# Altium schematic symbol library CustomLibrary (André Seidel Oliveira's conflicted copy 2013-01-27).SchLib: 23 symbols
Pins are listed as number, name and electrical type; pins without a type are passive.

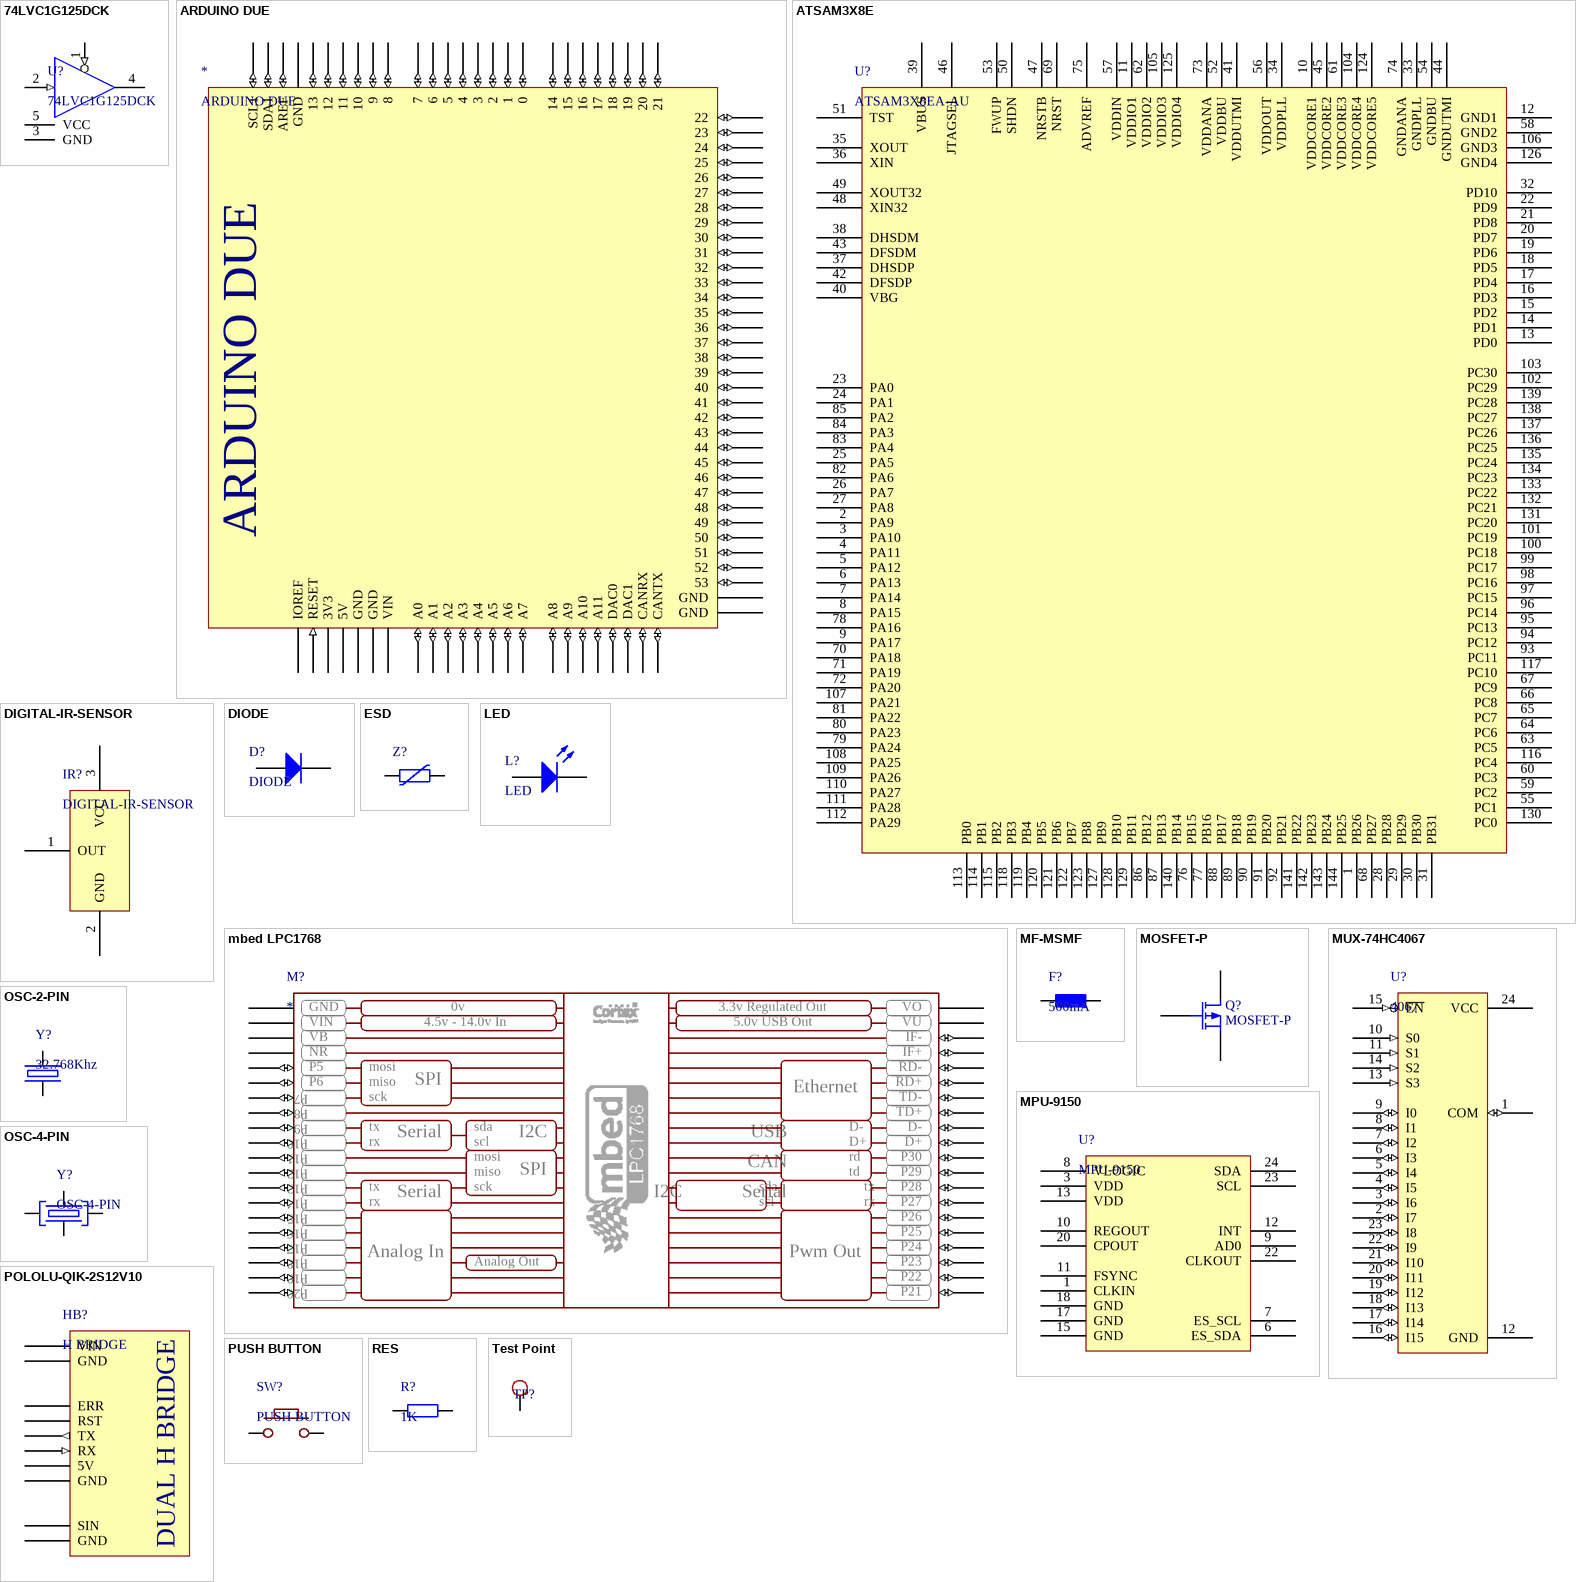
[diagram p0: symbols 74LVC1G125DCK to Test Point]

## 74LVC1G125DCK
designator U?
footprint SC70-5
pins: 1 (in), 2 (in), 3 GND (power), 4, 5 VCC (power)

## ARDUINO DUE
designator *
footprint ARDUINO-DUE
pins: 0 (io), 1 (io), 2 (io), 3 (io), 3V3 (power), 4 (io), 5 (io), 5V (power), 6 (io), 7 (io), 8 (io), 9 (io), 10 (io), 11 (io), 12 (io), 13 (io), 14 (io), 15 (io), 16 (io), 17 (io), 18 (io), 19 (io), 20 (io), 21 (io), 22 (io), 23 (io), 24 (io), 25 (io), 26 (io), 27 (io), 28 (io), 29 (io), 30 (io), 31 (io), 32 (io), 33 (io), 34 (io), 35 (io), 36 (io), 37 (io), 38 (io), 39 (io), 40 (io), 41 (io), 42 (io), 43 (io), 44 (io), 45 (io), 46 (io), 47 (io), 48 (io), 49 (io), 50 (io), 51 (io), 52 (io), 53 (io), A0 (io), A1 (io), A2 (io), A3 (io), A4 (io), A5 (io), A6 (io), A7 (io), A8 (io), A9 (io), A10 (io), A11 (io), AREF (io), CANRX (io), CANTX (io), DAC0 (io), DAC1 (io), GND1 GND (power), GND2 GND (power), GND3 GND (power), GND4 GND (power), GND5 GND (power), IOREF, RESET (in), SCL1 (io), SDA1 (io), VIN (power)

## ATSAM3X8E
designator U?, comment ATSAM3X8EA-AU
ATSAM3X8EA-AU ARM CORTEX M3 Microcontroller
footprint LQFP144_M (Thin QFP, 144-Leads, Body 20x20mm, Pitch 0.5mm, IPC Low Density)
pins: 1 PB26, 2 PA9, 3 PA10, 4 PA11, 5 PA12, 6 PA13, 7 PA14, 8 PA15, 9 PA17, 10 VDDCORE1 (power), 11 VDDIO1 (power), 12 GND1 (power), 13 PD0, 14 PD1, 15 PD2, 16 PD3, 17 PD4, 18 PD5, 19 PD6, 20 PD7, 21 PD8, 22 PD9, 23 PA0, 24 PA1, 25 PA5, 26 PA7, 27 PA8, 28 PB28, 29 PB29, 30 PB30, 31 PB31, 32 PD10, 33 GNDPLL (power), 34 VDDPLL (power), 35 XOUT, 36 XIN, 37 DHSDP, 38 DHSDM, 39 VBUS (power), 40 VBG, 41 VDDUTMI (power), 42 DFSDP, 43 DFSDM, 44 GNDUTMI (power), 45 VDDCORE2 (power), 46 JTAGSEL, 47 NRSTB, 48 XIN32, 49 XOUT32, 50 SHDN, 51 TST, 52 VDDBU (power), 53 FWUP, 54 GNDBU (power), 55 PC1, 56 VDDOUT (power), 57 VDDIN (power), 58 GND2 (power), 59 PC2, 60 PC3, 61 VDDCORE3 (power), 62 VDDIO2 (power), 63 PC5, 64 PC6, 65 PC7, 66 PC8, 67 PC9, 68 PB27, 69 NRST, 70 PA18, 71 PA19, 72 PA20, 73 VDDANA (power), 74 GNDANA (power), 75 ADVREF, 76 PB15, 77 PB16, 78 PA16, 79 PA24, 80 PA23, 81 PA22, 82 PA6, 83 PA4, 84 PA3, 85 PA2, 86 PB12, 87 PB13, 88 PB17, 89 PB18, 90 PB19, 91 PB20, 92 PB21, 93 PC11, 94 PC12, 95 PC13, 96 PC14, 97 PC15, 98 PC16, 99 PC17, 100 PC18, 101 PC19, 102 PC29, 103 PC30, 104 VDDCORE4 (power), 105 VDDIO3 (power), 106 GND3 (power), 107 PA21, 108 PA25, 109 PA26, 110 PA27, 111 PA28, 112 PA29, 113 PB0, 114 PB1, 115 PB2, 116 PC4, 117 PC10, 118 PB3, 119 PB4, 120 PB5, 121 PB6, 122 PB7, 123 PB8, 124 VDDCORE5 (power), 125 VDDIO4 (power), 126 GND4 (power), 127 PB9, 128 PB10, 129 PB11, 130 PC0, 131 PC20, 132 PC21, 133 PC22, 134 PC23, 135 PC24, 136 PC25, 137 PC26, 138 PC27, 139 PC28, 140 PB14, 141 PB22, 142 PB23, 143 PB24, 144 PB25

## DIGITAL-IR-SENSOR
designator IR?
Generic Infra Red Sensor
footprint KSM603 (Infrared sensor 3 pin KSM603)
pins: 1 OUT, 2 GND (power), 3 VCC (power)

## DIODE
designator D?
footprint DIODE1206 (Molded Diode, 2-Leads, Body 3,2x1,5mm, IPC Medium Density)
footprint DIODESMA
pins: 1 K, 2 A

## ESD
designator Z?
ESD Protection Diode
footprint ESD0603 (ESD Protection diode)
pins: 1, 2

## LED
designator L?
footprint LED0805
pins: 1 A, 2 K

## mbed LPC1768
designator M?
footprint DIP40-LARGE
pins: 1 GND (power), 2 VIN (power), 3 VB (power), 4 NR (power), 5 P5 (io), 6 P6 (io), 7 P7 (io), 8 P8 (io), 9 P9 (io), 10 P10 (io), 11 P11 (io), 12 P12 (io), 13 P13 (io), 14 P14 (io), 15 P15 (io), 16 P16 (io), 17 P17 (io), 18 P18 (io), 19 P19 (io), 20 P20 (io), 21 P21 (io), 22 P22 (io), 23 P23 (io), 24 P24 (io), 25 P25 (io), 26 P26 (io), 27 P27 (io), 28 P28 (io), 29 P29 (io), 30 P30 (io), 31 D+ (io), 32 D- (io), 33 TD+ (io), 34 TD- (io), 35 RD+ (io), 36 RD- (io), 37 IF+ (io), 38 IF- (io), 39 VU (power), 40 VO (power)
text: 0v; 3.3v Regulated Out; 4.5v - 14.0v In; 5.0v USB Out; mosi; miso; SPI; Ethernet; sck; tx; sda; Serial; I2C; USB; rx; scl; rd; CAN; td; Analog In; Pwm Out; Analog Out

## MF-MSMF
designator F?, comment 500mA
MF-MSMF Series - PTC Resettable Fuses
footprint MF-MSMF (MF-MSMF Series - PTC Resettable Fuses)
pins: 1, 2

## MOSFET-P
designator Q?
P-Channel MOSFET; Published: 8-Jun-2000; LatestRevisionDate: 17-Jul-2002; LatestRevisionNote: Re-released for DXP Platform.; PackageVersion: 1995/1996; PackageReference: E3; Publisher: Altium Limited; PackageDescription: TO, Flat Index; 3 In-Line, Axial Leads; Body Dia. 4.6mm; Lead Dia. 0.5 mm (max)
footprint SOT-23 (SOT23, 3-Leads, Body 3,0x2,6mm (max), Pitch 0,95mm, IPC Medium Density)
pins: 1 G, 2 S, 3 D

## MPU-9150
designator U?
InveSense MPU-9150 IMU 9 axles
footprint LGA-24 (QFN, 24-Leads, Body 4,0x4,0mm (max), Pitch 0,50mm, IPC Medium Density)
pins: 1 CLKIN, 3 VDD (power), 6 ES_SDA, 7 ES_SCL, 8 VLOGIC (power), 9 AD0, 10 REGOUT, 11 FSYNC, 12 INT, 13 VDD (power), 15 GND (power), 17 GND (power), 18 GND (power), 20 CPOUT, 22 CLKOUT, 23 SCL, 24 SDA

## MUX-74HC4067
designator U?, comment 4067
MUX-74HC4067
footprint SSOP-24 (SOP, 24-Leads, Body 8,5x5,6mm (max), Pitch 0,65mm, IPC Medium Density)
pins: 1 COM (io), 2 I7 (io), 3 I6 (io), 4 I5 (io), 5 I4 (io), 6 I3 (io), 7 I2 (io), 8 I1 (io), 9 I0 (io), 10 S0 (in), 11 S1 (in), 12 GND (power), 13 S3 (in), 14 S2 (in), 15 ~{EN} (in), 16 I15 (io), 17 I14 (io), 18 I13 (io), 19 I12 (io), 20 I11 (io), 21 I10 (io), 22 I9 (io), 23 I8 (io), 24 VCC (power)

## OSC-2-PIN
designator Y?, comment 32.768Khz
2 pin oscilator
footprint OSC-2-PIN (Package of a 2 pin SMD oscilator)
footprint OSC-2-PIN-TH (Trough Hole two pin crystal oscilator)
pins: 1, 2

## OSC-4-PIN
designator Y?
KX-7 12MHz Oscilator 20pF
footprint OSC-4-PIN (Package of a 4 pin SMD oscilator)
pins: 1, 2, 3, 4

## POLOLU-QIK-2S12V10
designator HB?, comment H BRIDGE
POLOLU QIK 2S12V10 DUAL H BRIDGE
footprint POLOLU-QIK-2S12V10-BOTTOM (Pololu H Bridge)
pins: 5V, ERR, GND1 GND (power), GND2 GND (power), GND3 GND (power), RST, RX (in), SIN, TX (out), VIN (power)
text: DUAL H BRIDGE

## PUSH BUTTON
designator SW?
footprint PUSH-BUTTON 5,2X1,6MM
pins: 1, 2

## RES
designator R?, comment 1K
footprint RES1206 (Chip Resistor, 2-Leads, Body 3,1x1,6mm, IPC Medium Density)
pins: 1, 2

## Test Point
designator TP?  (value not drawn)
Test Point for Osciloscope measurements
footprint TP1
pins: 1

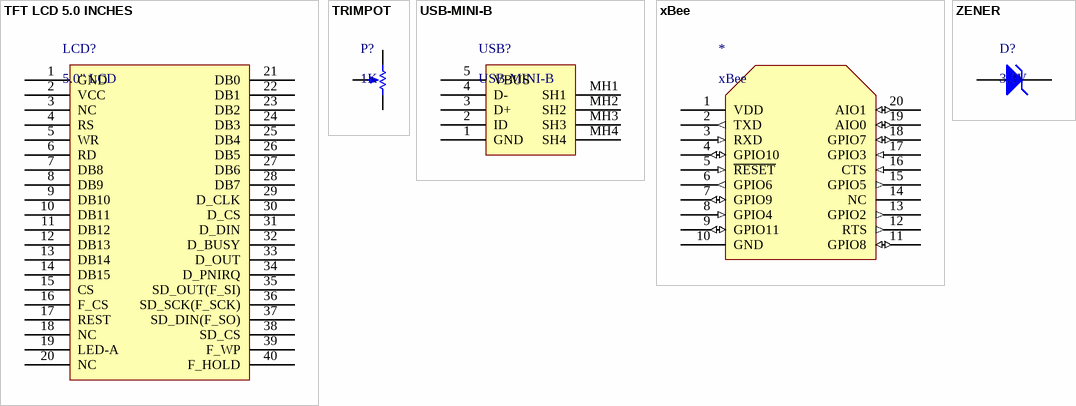
[diagram p1: symbols TFT LCD 5.0 INCHES to ZENER]

## TFT LCD 5.0 INCHES
designator LCD?, comment 5.0" LCD
footprint TFT LCD 5.0 INCHES
pins: 1 GND (power), 2 VCC (power), 3 NC, 4 RS, 5 WR, 6 RD, 7 DB8, 8 DB9, 9 DB10, 10 DB11, 11 DB12, 12 DB13, 13 DB14, 14 DB15, 15 CS, 16 F_CS, 17 REST, 18 NC, 19 LED-A, 20 NC, 21 DB0, 22 DB1, 23 DB2, 24 DB3, 25 DB4, 26 DB5, 27 DB6, 28 DB7, 29 D_CLK, 30 D_CS, 31 D_DIN, 32 D_BUSY, 33 D_OUT, 34 D_PNIRQ, 35 SD_OUT(F_SI), 36 SD_SCK(F_SCK), 37 SD_DIN(F_SO), 38 SD_CS, 39 F_WP, 40 F_HOLD

## TRIMPOT
designator P?, comment 1K
footprint TRIMPOT-3296W
pins: 1 TOP, 2 TAP, 3 BOT

## USB-MINI-B
designator USB?
USB Mini type B Horizontal SMD
footprint USB-MINI-B (USB MINI TYPE B connector)
pins: 1 GND (power), 2 ID, 3 D+, 4 D-, 5 VBUS (power), MH1 SH1 (power), MH2 SH2 (power), MH3 SH3 (power), MH4 SH4 (power)

## xBee
designator *
footprint xBee
pins: 1 VDD (power), 2 TXD (out), 3 RXD (in), 4 GPIO10 (io), 5 ~{RESET} (in), 6 GPIO6 (out), 7 GPIO9 (io), 8 GPIO4 (in), 9 GPIO11 (io), 10 GND (power), 11 GPIO8 (io), 12 RTS (out), 13 GPIO2 (out), 14 NC, 15 GPIO5 (out), 16 CTS (in), 17 GPIO3 (in), 18 GPIO7 (io), 19 AIO0 (io), 20 AIO1 (io)

## ZENER
designator D?, comment 3.3V
ZENER DIODE
footprint DIODE-SOD-123 (Footprint not found)
pins: 1 K, 2 A